# EAGLE library part HCNR200 (library Traficon)
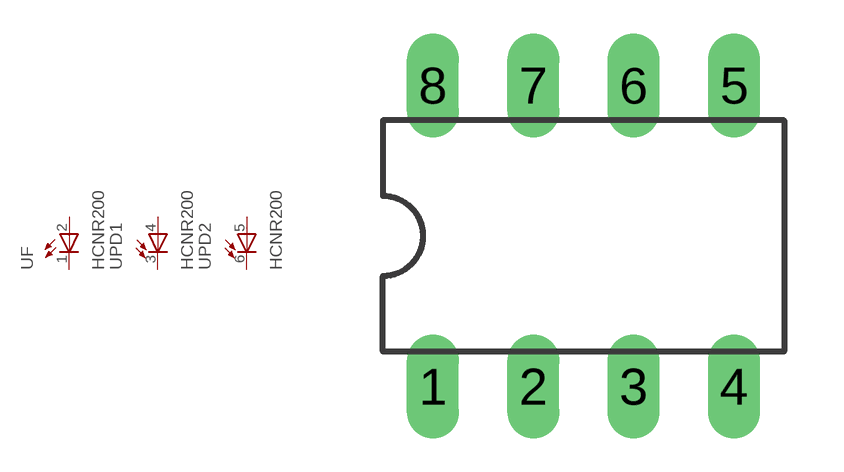
[diagram p255: symbol with the pads of DIL08; footprint DIL08]

Designator prefix U; gates F=LED PD1=PHOTO_DIODE PD2=PHOTO_DIODE

## HCNR200  [DIL08]
1  F:C  pas
2  F:A  pas
3  PD1:C  pas
4  PD1:A  pas
5  PD2:A  pas
6  PD2:C  pas

## Footprint DIL08 (pad centres in mm)
Dual In Line Package
drill 0.813 long: 1 -3.81,-3.81; 2 -1.27,-3.81; 3 1.27,-3.81; 4 3.81,-3.81; 5 3.81,3.81; 6 1.27,3.81; 7 -1.27,3.81; 8 -3.81,3.81